# EAGLE library part PCIEX4_EDGE (library con-pcie-x4)
PCIe x4
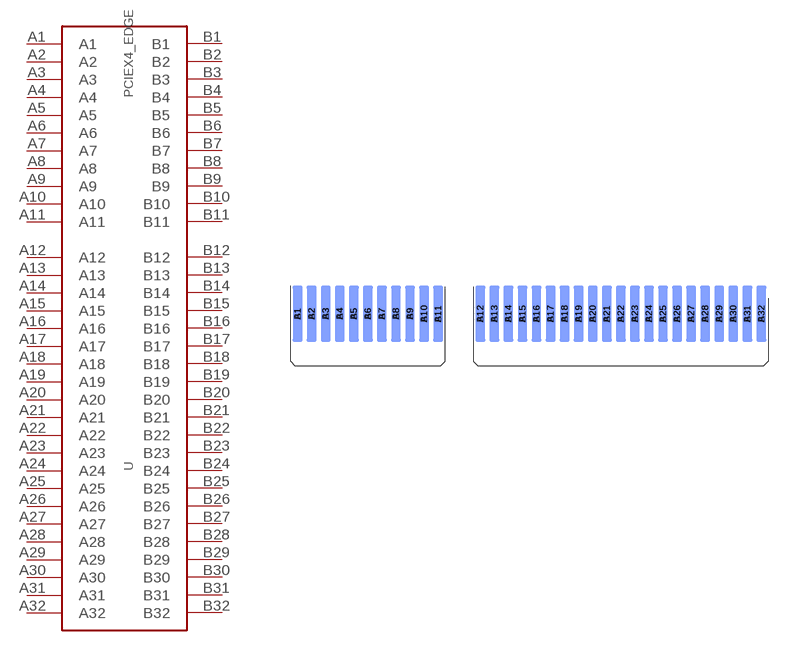
[diagram p0: symbol with the pads of PCIEX4; footprint PCIEX4]

Designator prefix -

## PCIEX4_EDGE  [PCIEX4]
A1  A1
A2  A2
A3  A3
A4  A4
A5  A5
A6  A6
A7  A7
A8  A8
A9  A9
A10  A10
A11  A11
A12  A12
A13  A13
A14  A14
A15  A15
A16  A16
A17  A17
A18  A18
A19  A19
A20  A20
A21  A21
A22  A22
A23  A23
A24  A24
A25  A25
A26  A26
A27  A27
A28  A28
A29  A29
A30  A30
A31  A31
A32  A32
B1  B1
B2  B2
B3  B3
B4  B4
B5  B5
B6  B6
B7  B7
B8  B8
B9  B9
B10  B10
B11  B11
B12  B12
B13  B13
B14  B14
B15  B15
B16  B16
B17  B17
B18  B18
B19  B19
B20  B20
B21  B21
B22  B22
B23  B23
B24  B24
B25  B25
B26  B26
B27  B27
B28  B28
B29  B29
B30  B30
B31  B31
B32  B32

## Footprint PCIEX4 (pad centres in mm)
smd 0.7 x 4 bottom: A1 -31.46,4.75; A2 -30.46,4.75; A3 -29.46,4.75; A4 -28.46,4.75; A5 -27.46,4.75; A6 -26.46,4.75; A7 -25.46,4.75; A8 -24.46,4.75; A9 -23.46,4.75; A10 -22.46,4.75; A11 -21.46,4.75; A12 -18.46,4.75; A13 -17.46,4.75; A14 -16.46,4.75; A15 -15.46,4.75; A16 -14.46,4.75; A17 -13.46,4.75; A18 -12.46,4.75; A19 -11.46,4.75; A20 -10.46,4.75; A21 -9.46,4.75; A22 -8.46,4.75; A23 -7.46,4.75; A24 -6.46,4.75; A25 -5.46,4.75; A26 -4.46,4.75; A27 -3.46,4.75; A28 -2.46,4.75; A29 -1.46,4.75; A30 -0.46,4.75; A31 0.54,4.75; A32 1.54,4.75
smd 0.7 x 4: B1 -31.46,4.75; B2 -30.46,4.75; B3 -29.46,4.75; B4 -28.46,4.75; B5 -27.46,4.75; B6 -26.46,4.75; B7 -25.46,4.75; B8 -24.46,4.75; B9 -23.46,4.75; B10 -22.46,4.75; B11 -21.46,4.75; B12 -18.46,4.75; B13 -17.46,4.75; B14 -16.46,4.75; B15 -15.46,4.75; B16 -14.46,4.75; B17 -13.46,4.75; B18 -12.46,4.75; B19 -11.46,4.75; B20 -10.46,4.75; B21 -9.46,4.75; B22 -8.46,4.75; B23 -7.46,4.75; B24 -6.46,4.75; B25 -5.46,4.75; B26 -4.46,4.75; B27 -3.46,4.75; B28 -2.46,4.75; B29 -1.46,4.75; B30 -0.46,4.75; B31 0.54,4.75; B32 1.54,4.75